# EAGLE library part ATTINY3216-SN (library ATtiny ow V01)
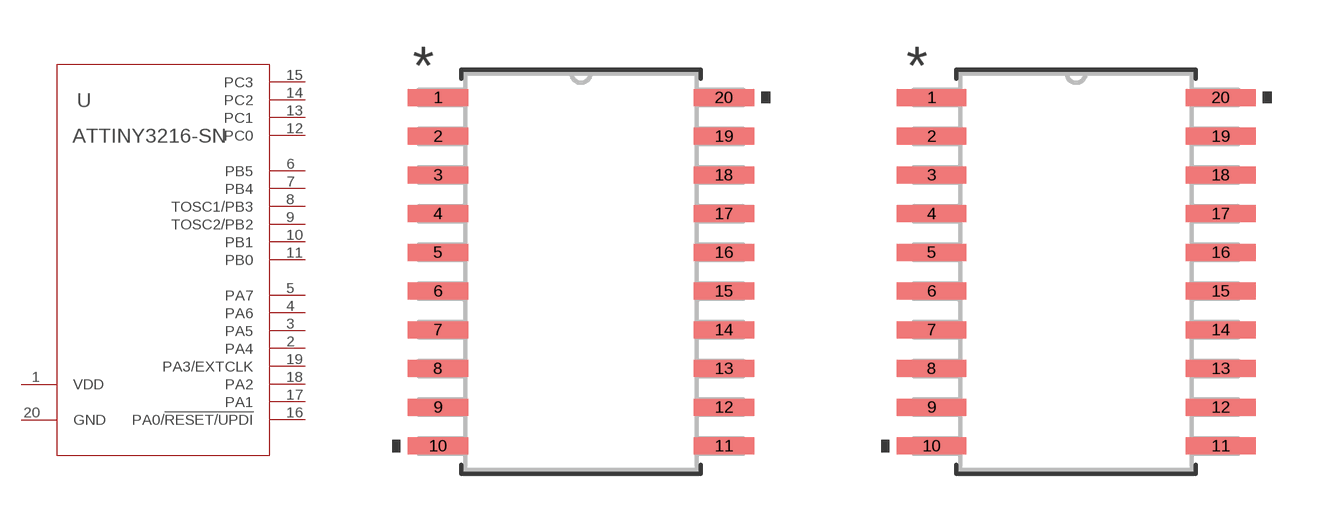
[diagram p3: symbol with the pads of SOIC20_12P8X7P5_MCH; footprints SOIC20_12P8X7P5_MCH, SOIC20_12P8X7P5_MCH-M]

Designator prefix U

## ATTINY3216-SNSOIC20_12P8X7P5_MCH (COPYRIGHT: Copyright (C) 2021 Ultra Librarian. All rights reserved.; MANUFACTURER_PART_NUMBER: ATTINY3216-SN; MFR_NAME: Microchip)  [SOIC20_12P8X7P5_MCH]
1  VDD  pwr
2  PA4
3  PA5
4  PA6
5  PA7
6  PB5
7  PB4
8  TOSC1/PB3
9  TOSC2/PB2
10  PB1
11  PB0
12  PC0
13  PC1
14  PC2
15  PC3
16  PA0/!RESET/UPDI
17  PA1
18  PA2
19  PA3/EXTCLK
20  GND  pas

## ATTINY3216-SNSOIC20_12P8X7P5_MCH-M (COPYRIGHT: Copyright (C) 2021 Ultra Librarian. All rights reserved.; MANUFACTURER_PART_NUMBER: ATTINY3216-SN; MFR_NAME: Microchip)  [SOIC20_12P8X7P5_MCH-M]
Pads as for SOIC20_12P8X7P5_MCH

## ATTINY3216-SNSOIC20_12P8X7P5_MCH-L (COPYRIGHT: Copyright (C) 2021 Ultra Librarian. All rights reserved.; MANUFACTURER_PART_NUMBER: ATTINY3216-SN; MFR_NAME: Microchip)  [SOIC20_12P8X7P5_MCH-L]
Pads as for SOIC20_12P8X7P5_MCH

## Footprint SOIC20_12P8X7P5_MCH (pad centres in mm)
smd 1.981 x 0.559: 1 -4.686,5.715; 2 -4.686,4.445; 3 -4.686,3.175; 4 -4.686,1.905; 5 -4.686,0.635; 6 -4.686,-0.635; 7 -4.686,-1.905; 8 -4.686,-3.175; 9 -4.686,-4.445; 10 -4.686,-5.715; 11 4.686,-5.715; 12 4.686,-4.445; 13 4.686,-3.175; 14 4.686,-1.905; 15 4.686,-0.635; 16 4.686,0.635; 17 4.686,1.905; 18 4.686,3.175; 19 4.686,4.445; 20 4.686,5.715

## Footprint SOIC20_12P8X7P5_MCH-M (pad centres in mm)
smd 2.286 x 0.559: 1 -4.737,5.715; 2 -4.737,4.445; 3 -4.737,3.175; 4 -4.737,1.905; 5 -4.737,0.635; 6 -4.737,-0.635; 7 -4.737,-1.905; 8 -4.737,-3.175; 9 -4.737,-4.445; 10 -4.737,-5.715; 11 4.737,-5.715; 12 4.737,-4.445; 13 4.737,-3.175; 14 4.737,-1.905; 15 4.737,-0.635; 16 4.737,0.635; 17 4.737,1.905; 18 4.737,3.175; 19 4.737,4.445; 20 4.737,5.715

## Footprint SOIC20_12P8X7P5_MCH-L (pad centres in mm)
smd 1.676 x 0.508: 1 -4.636,5.715; 2 -4.636,4.445; 3 -4.636,3.175; 4 -4.636,1.905; 5 -4.636,0.635; 6 -4.636,-0.635; 7 -4.636,-1.905; 8 -4.636,-3.175; 9 -4.636,-4.445; 10 -4.636,-5.715; 11 4.636,-5.715; 12 4.636,-4.445; 13 4.636,-3.175; 14 4.636,-1.905; 15 4.636,-0.635; 16 4.636,0.635; 17 4.636,1.905; 18 4.636,3.175; 19 4.636,4.445; 20 4.636,5.715